# Altium schematic symbol library MDM10-2V.Schlib: 1 symbol
Pins are listed as number, name and electrical type; pins without a type are passive.

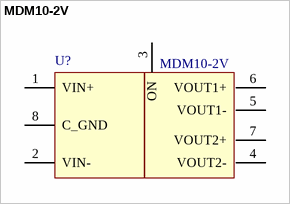
[diagram p0: symbol MDM10-2V]

## MDM10-2V
designator U?
Наименование: МДМ10-2В1212ТВ; Назначение: DC-DC преобразователь 10 Вт
pins: 1 VIN+, 2 VIN-, 3 ON, 4 VOUT2-, 5 VOUT1-, 6 VOUT1+, 7 VOUT2+, 8 C_GND